# Altium schematic symbol library SCH-MCU-WCH-CH552G-SOP16.SchLib: 1 symbol
Pins are listed as number, name and electrical type; pins without a type are passive.

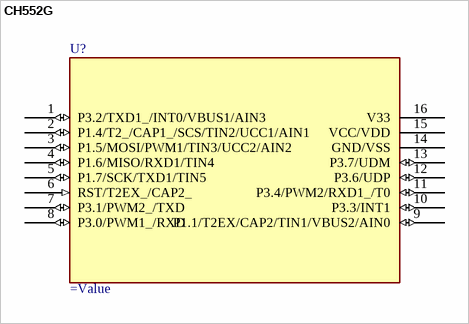
[diagram p0: symbol CH552G]

## CH552G
designator U?
pins: 1 P3.2/TXD1_/INT0/VBUS1/AIN3 (io), 2 P1.4/T2_/CAP1_/SCS/TIN2/UCC1/AIN1 (io), 3 P1.5/MOSI/PWM1/TIN3/UCC2/AIN2 (io), 4 P1.6/MISO/RXD1/TIN4 (io), 5 P1.7/SCK/TXD1/TIN5 (io), 6 RST/T2EX_/CAP2_ (in), 7 P3.1/PWM2_/TXD (io), 8 P3.0/PWM1_/RXD (io), 9 P1.1/T2EX/CAP2/TIN1/VBUS2/AIN0 (io), 10 P3.3/INT1 (io), 11 P3.4/PWM2/RXD1_/T0 (io), 12 P3.6/UDP (io), 13 P3.7/UDM (io), 14 GND/VSS (power), 15 VCC/VDD (power), 16 V33 (power)